# Altium schematic symbol library WR-WST.SchLib: 9 symbols
Pins are listed as number, name and electrical type; pins without a type are passive.

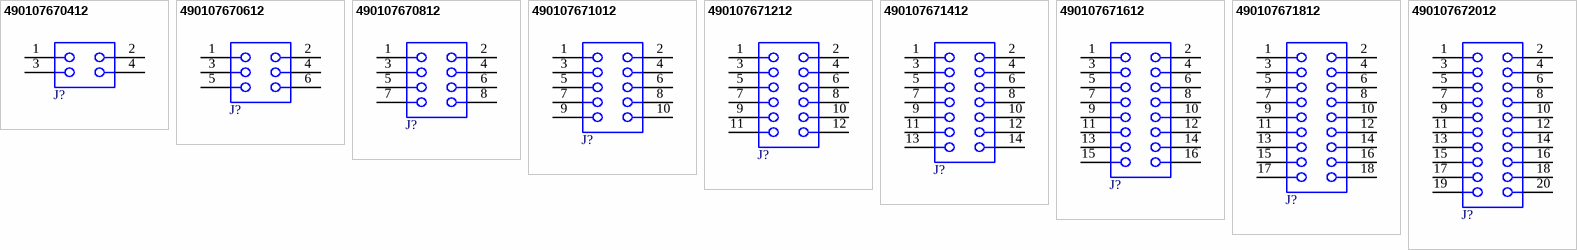
[diagram p0: symbols 490107670412 to 490107672012]

## 490107670412
designator J?  (value not drawn)
WR-WST REDFIT IDC SKEDD, pitch 2.54mm, 4p; Manufacturer: Wurth Elektronik; Contact Resistance: 10mΩ; Gender: Transition; Rated Current: 1A; Working Voltage: 100VAC; ComponentLink1Description: Website Link; ComponentLink1URL: https://www.we-online.com/redexpert/article/490107670412?ad; ComponentLink2Description: Datasheet Link; ComponentLink2URL: https://www.we-online.com/redexpert/spec/490107670412?ad; Manufacturer Part Number: 490107670412; Category: Wire-to-Board Connectors; Match Code: WR-WST; Mount: Press Fit; Operating Temperature Max: 105°C; Operating Temperature Min: -25°C; Packaging: Tube; Number of Pins: 4; Pitch: 2.54mm
footprint 490107670412_Permanent Application
footprint 490107670412_Debugging Application
pins: 1, 2, 3, 4

## 490107670612
designator J?  (value not drawn)
WR-WST REDFIT IDC SKEDD, pitch 2.54mm, 6p; Manufacturer: Wurth Elektronik; Contact Resistance: 10mΩ; Gender: Transition; Rated Current: 1A; Working Voltage: 100VAC; ComponentLink1Description: Website Link; ComponentLink1URL: https://www.we-online.com/redexpert/article/490107670612?ad; ComponentLink2Description: Datasheet Link; ComponentLink2URL: https://www.we-online.com/redexpert/spec/490107670612?ad; Manufacturer Part Number: 490107670612; Category: Wire-to-Board Connectors; Match Code: WR-WST; Mount: Press Fit; Operating Temperature Max: 105°C; Operating Temperature Min: -25°C; Packaging: Tube; Number of Pins: 6; Pitch: 2.54mm
footprint 490107670612_Permanent Application
footprint 490107670612_Debugging Application
pins: 1, 2, 3, 4, 5, 6

## 490107670812
designator J?  (value not drawn)
WR-WST REDFIT IDC SKEDD, pitch 2.54mm, 8p; Manufacturer: Wurth Elektronik; Contact Resistance: 10mΩ; Gender: Transition; Rated Current: 1A; Working Voltage: 100VAC; ComponentLink1Description: Website Link; ComponentLink1URL: https://www.we-online.com/redexpert/article/490107670812?ad; ComponentLink2Description: Datasheet Link; ComponentLink2URL: https://www.we-online.com/redexpert/spec/490107670812?ad; Manufacturer Part Number: 490107670812; Category: Wire-to-Board Connectors; Match Code: WR-WST; Mount: Press Fit; Operating Temperature Max: 105°C; Operating Temperature Min: -25°C; Packaging: Tube; Number of Pins: 8; Pitch: 2.54mm
footprint 490107670812_Permanent Application
footprint 490107670812_Debugging Application
pins: 1, 2, 3, 4, 5, 6, 7, 8

## 490107671012
designator J?  (value not drawn)
WR-WST REDFIT IDC SKEDD, pitch 2.54mm, 10p; Manufacturer: Wurth Elektronik; Contact Resistance: 10mΩ; Gender: Transition; Rated Current: 1A; Working Voltage: 100VAC; ComponentLink1Description: Website Link; ComponentLink1URL: https://www.we-online.com/redexpert/article/490107671012?ad; ComponentLink2Description: Datasheet Link; ComponentLink2URL: https://www.we-online.com/redexpert/spec/490107671012?ad; Manufacturer Part Number: 490107671012; Category: Wire-to-Board Connectors; Match Code: WR-WST; Mount: Press Fit; Operating Temperature Max: 105°C; Operating Temperature Min: -25°C; Packaging: Tube; Number of Pins: 10; Pitch: 2.54mm
footprint 490107671012_Permanent Application
footprint 490107671012_Debugging Application
pins: 1, 2, 3, 4, 5, 6, 7, 8, 9, 10

## 490107671212
designator J?  (value not drawn)
WR-WST REDFIT IDC SKEDD, pitch 2.54mm, 12p; Manufacturer: Wurth Elektronik; Contact Resistance: 10mΩ; Gender: Transition; Rated Current: 1A; Working Voltage: 100VAC; ComponentLink1Description: Website Link; ComponentLink1URL: https://www.we-online.com/redexpert/article/490107671212?ad; ComponentLink2Description: Datasheet Link; ComponentLink2URL: https://www.we-online.com/redexpert/spec/490107671212?ad; Manufacturer Part Number: 490107671212; Category: Wire-to-Board Connectors; Match Code: WR-WST; Mount: Press Fit; Operating Temperature Max: 105°C; Operating Temperature Min: -25°C; Packaging: Tube; Number of Pins: 12; Pitch: 2.54mm
footprint 490107671212_Permanent Application
footprint 490107671212_Debugging Application
pins: 1, 2, 3, 4, 5, 6, 7, 8, 9, 10, 11, 12

## 490107671412
designator J?  (value not drawn)
WR-WST REDFIT IDC SKEDD, pitch 2.54mm, 14p; Manufacturer: Wurth Elektronik; Contact Resistance: 10mΩ; Gender: Transition; Rated Current: 1A; Working Voltage: 100VAC; ComponentLink1Description: Website Link; ComponentLink1URL: https://www.we-online.com/redexpert/article/490107671412?ad; ComponentLink2Description: Datasheet Link; ComponentLink2URL: https://www.we-online.com/redexpert/spec/490107671412?ad; Manufacturer Part Number: 490107671412; Category: Wire-to-Board Connectors; Match Code: WR-WST; Mount: Press Fit; Operating Temperature Max: 105°C; Operating Temperature Min: -25°C; Packaging: Tube; Number of Pins: 14; Pitch: 2.54mm
footprint 490107671412_Permanent Application
footprint 490107671412_Debugging Application
pins: 1, 2, 3, 4, 5, 6, 7, 8, 9, 10, 11, 12, 13, 14

## 490107671612
designator J?  (value not drawn)
WR-WST REDFIT IDC SKEDD, pitch 2.54mm, 16p; Manufacturer: Wurth Elektronik; Contact Resistance: 10mΩ; Gender: Transition; Rated Current: 1A; Working Voltage: 100VAC; ComponentLink1Description: Website Link; ComponentLink1URL: https://www.we-online.com/redexpert/article/490107671612?ad; ComponentLink2Description: Datasheet Link; ComponentLink2URL: https://www.we-online.com/redexpert/spec/490107671612?ad; Manufacturer Part Number: 490107671612; Category: Wire-to-Board Connectors; Match Code: WR-WST; Mount: Press Fit; Operating Temperature Max: 105°C; Operating Temperature Min: -25°C; Packaging: Tube; Number of Pins: 16; Pitch: 2.54mm
footprint 490107671612_Permanent Application
footprint 490107671612_Debugging Application
pins: 1, 2, 3, 4, 5, 6, 7, 8, 9, 10, 11, 12, 13, 14, 15, 16

## 490107671812
designator J?  (value not drawn)
WR-WST REDFIT IDC SKEDD, pitch 2.54mm, 18p; Manufacturer: Wurth Elektronik; Contact Resistance: 10mΩ; Gender: Transition; Rated Current: 1A; Working Voltage: 100VAC; ComponentLink1Description: Website Link; ComponentLink1URL: https://www.we-online.com/redexpert/article/490107671812?ad; ComponentLink2Description: Datasheet Link; ComponentLink2URL: https://www.we-online.com/redexpert/spec/490107671812?ad; Manufacturer Part Number: 490107671812; Category: Wire-to-Board Connectors; Match Code: WR-WST; Mount: Press Fit; Operating Temperature Max: 105°C; Operating Temperature Min: -25°C; Packaging: Tube; Number of Pins: 18; Pitch: 2.54mm
footprint 490107671812_Permanent Application
footprint 490107671812_Debugging Application
pins: 1, 2, 3, 4, 5, 6, 7, 8, 9, 10, 11, 12, 13, 14, 15, 16, 17, 18

## 490107672012
designator J?  (value not drawn)
WR-WST REDFIT IDC SKEDD, pitch 2.54mm, 20p; Manufacturer: Wurth Elektronik; Contact Resistance: 10mΩ; Gender: Transition; Rated Current: 1A; Working Voltage: 100VAC; ComponentLink1Description: Website Link; ComponentLink1URL: https://www.we-online.com/redexpert/article/490107672012?ad; ComponentLink2Description: Datasheet Link; ComponentLink2URL: https://www.we-online.com/redexpert/spec/490107672012?ad; Manufacturer Part Number: 490107672012; Category: Wire-to-Board Connectors; Match Code: WR-WST; Mount: Press Fit; Operating Temperature Max: 105°C; Operating Temperature Min: -25°C; Packaging: Tube; Number of Pins: 20; Pitch: 2.54mm
footprint 490107672012_Permanent Application
footprint 490107672012_Debugging Application
pins: 1, 2, 3, 4, 5, 6, 7, 8, 9, 10, 11, 12, 13, 14, 15, 16, 17, 18, 19, 20